# Altium footprint library PcbLib1.PcbLib: 26 footprints (part 1 of 2)
Each footprint in its own frame and in the unit in brackets; x right, y up, seen from the top. Pads: shape width x height; smd on the part's side, far side on the other; paste and mask are expansions set on the pad; w line width, h text height; cw(c..) or ccw(c..) is an arc to the next point about the centre after c.
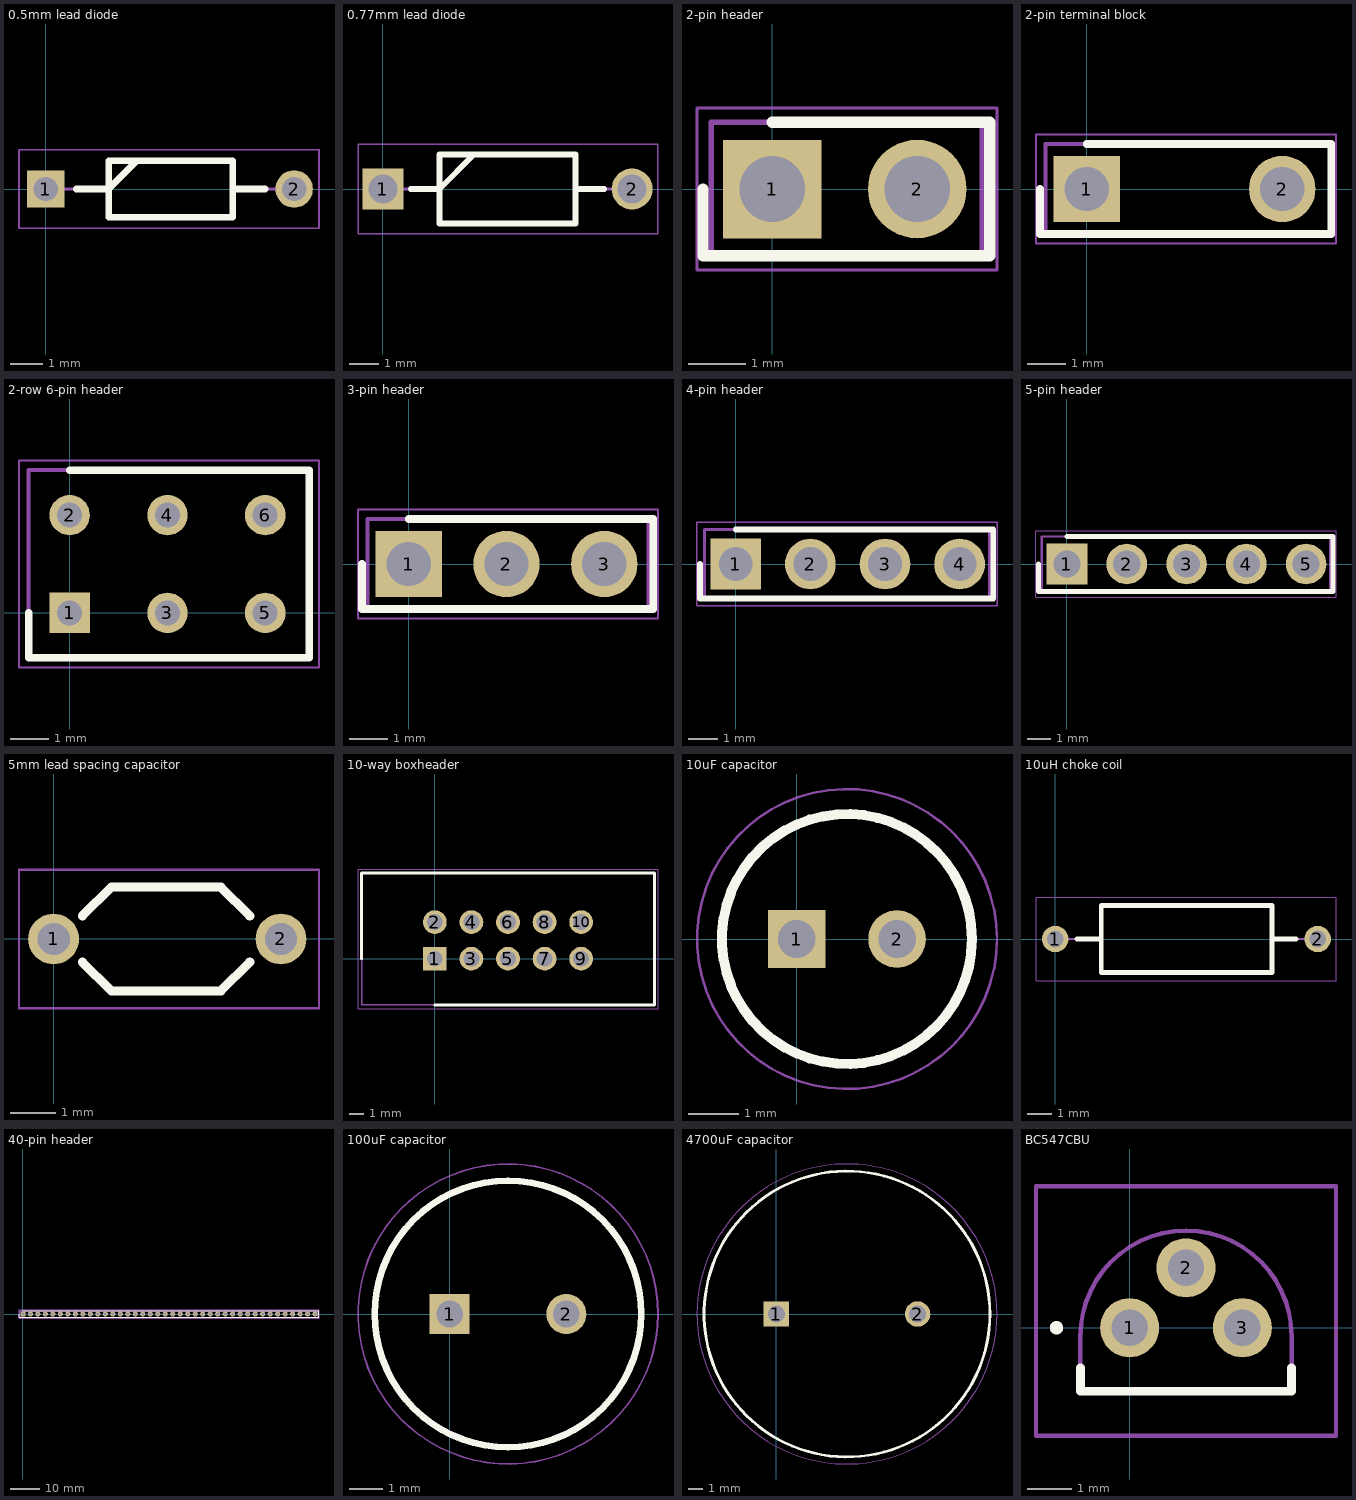
[diagram p0: the footprints below, top view; thin cyan lines are the x and y axes]

## 0.5mm lead diode [mm]
pads (2):
  rect 1.15x1.15 hole 0.75: 1(0,0)
  round 1.15 hole 0.75: 2(7.62,0)
Top Overlay:
  lines w0.2: 0.925,0 1.905,0 ; 1.924,0 2.784,0.86 ; 5.842,0 6.731,0 ; 1.924,-0.86 5.728,-0.86 5.728,0.86 1.924,0.86 1.924,-0.86
Mechanical 13:
  lines w0.1: 0,0 1.905,0 ; 1.924,0 2.784,0.86 ; 5.715,0 7.62,0 ; 1.924,-0.86 5.729,-0.86 5.729,0.86 1.924,0.86 1.924,-0.86
Mechanical 15:
  lines w0.05: -0.825,-1.21 8.382,-1.21 8.382,1.21 -0.825,1.21 -0.825,-1.21
3D body: height 0, standoff 0, extent -0.264,-0.953 7.874,0.953

## 0.77mm lead diode [mil]
pads (2):
  rect 55x55 hole 39: 1(0,0)
  round 55 hole 39: 2(335.12,0)
Top Overlay:
  lines w7.87: 37.4,0 75,0 ; 76.02,0 122.28,46.26 ; 260,0 297.72,0 ; 76.02,-46.26 259.09,-46.26 259.09,46.26 76.02,46.26 76.02,-46.26
Mechanical 13:
  lines w3.94: 0,0 75,0 ; 76.02,0 122.28,46.26 ; 260,0 335.12,0 ; 76.02,-46.26 259.09,-46.26 259.09,46.26 76.02,46.26 76.02,-46.26
Mechanical 15:
  lines w1.97: -33.46,-60.04 370,-60.04 370,60.04 -33.46,60.04 -33.46,-60.04
3D body: height 0, standoff 0, extent -11.33,-53.04 345,53.04

## 2-pin header [mm]
pads (2):
  rect 1.725x1.725 hole 1.15: 1(0,0)
  round 1.725 hole 1.15: 2(2.54,0)
Top Overlay:
  lines w0.2: -1.212,0 -1.212,-1.168 3.81,-1.168 3.81,1.169 0,1.169
Mechanical 13:
  lines w0.1: -1.067,-1.168 3.683,-1.168 3.683,1.169 -1.067,1.169 -1.067,-1.168
Mechanical 15:
  lines w0.05: -1.317,-1.418 3.937,-1.418 3.937,1.419 -1.317,1.419 -1.317,-1.418
3D body: height 0, standoff 0, extent -1.067,-1.168 3.81,1.168

## 2-pin terminal block [mm]
pads (2):
  rect 1.725x1.725 hole 1.15: 1(0,0)
  round 1.725 hole 1.15: 2(5.08,0)
Top Overlay:
  lines w0.2: -1.212,0 -1.212,-1.168 6.35,-1.168 6.35,1.169 0,1.169
Mechanical 13:
  lines w0.1: -1.067,-1.168 -1.067,1.169 6.35,1.169 6.35,-1.168 -1.067,-1.168
Mechanical 15:
  lines w0.05: -1.317,-1.418 -1.317,1.419 6.477,1.419 6.477,-1.418 -1.317,-1.418
3D body: height 0, standoff 0, extent -2.54,-4.064 7.747,4.064

## 2-row 6-pin header [mm]
pads (6):
  rect 1.05x1.05 hole 0.65: 1(0,0)
  round 1.05 hole 0.65: 2(0,2.54) 3(2.54,0) 4(2.54,2.54) 5(5.08,0) 6(5.08,2.54)
Top Overlay:
  lines w0.2: -1.067,0 -1.067,-1.168 6.223,-1.168 6.223,3.709 0,3.709
Mechanical 13:
  lines w0.1: -1.067,-1.168 -1.067,3.709 6.223,3.709 6.223,-1.168 -1.067,-1.168
Mechanical 15:
  lines w0.05: -1.317,-1.418 -1.317,3.959 6.477,3.959 6.477,-1.418 -1.317,-1.418
3D body: height 0, standoff 0, extent -1.067,-1.168 6.223,3.708

## 3-pin header [mm]
pads (3):
  rect 1.725x1.725 hole 1.15: 1(0,0)
  round 1.725 hole 1.15: 2(2.54,0) 3(5.08,0)
Top Overlay:
  lines w0.2: -1.212,0 -1.212,-1.168 6.35,-1.168 6.35,1.169 0,1.169
Mechanical 13:
  lines w0.1: -1.067,-1.168 -1.067,1.169 6.223,1.169 6.223,-1.168 -1.067,-1.168
Mechanical 15:
  lines w0.05: -1.317,-1.418 -1.317,1.419 6.477,1.419 6.477,-1.418 -1.317,-1.418
3D body: height 0, standoff 0, extent -1.067,-1.168 6.35,1.168

## 4-pin header [mm]
pads (4):
  rect 1.725x1.725 hole 1.15: 1(0,0)
  round 1.725 hole 1.15: 2(2.54,0) 3(5.08,0) 4(7.62,0)
Top Overlay:
  lines w0.2: -1.212,0 -1.212,-1.168 8.763,-1.168 8.763,1.169 0,1.169
Mechanical 13:
  lines w0.1: -1.067,-1.168 8.636,-1.168 8.636,1.169 -1.067,1.169 -1.067,-1.168
Mechanical 15:
  lines w0.05: -1.317,-1.418 8.89,-1.418 8.89,1.419 -1.317,1.419 -1.317,-1.418
3D body: height 0, standoff 0, extent -1.067,-1.168 8.636,1.168

## 5-pin header [mm]
pads (5):
  rect 1.725x1.725 hole 1.15: 1(0,0)
  round 1.725 hole 1.15: 2(2.54,0) 3(5.08,0) 4(7.62,0) 5(10.16,0)
Top Overlay:
  lines w0.2: -1.212,0 -1.212,-1.168 11.303,-1.168 11.303,1.169 0,1.169
Mechanical 13:
  lines w0.1: -1.067,-1.168 -1.067,1.169 11.176,1.169 11.176,-1.168 -1.067,-1.168
Mechanical 15:
  lines w0.05: -1.317,-1.418 -1.317,1.419 11.43,1.419 11.43,-1.418 -1.317,-1.418
3D body: height 0, standoff 0, extent -1.067,-1.168 11.176,1.168

## 5mm lead spacing capacitor [mil]
pads (2):
  round 44 hole 28: 1(0,0) 2(197,0)
Top Overlay:
  lines w7.87: 25,-20 50,-45 145,-45 170,-20 ; 25,20 50,45 145,45 170,20
Mechanical 15:
  lines w1.97: -30,-60 230,-60 230,60 -30,60 -30,-60

## 10-way boxheader [mm]
pads (10):
  rect 1.65x1.65 hole 1.1: 1(0,0)
  round 1.65 hole 1.1: 2(0,2.54) 3(2.54,0) 4(2.54,2.54) 5(5.08,0) 6(5.08,2.54) 7(7.62,0) 8(7.62,2.54) 9(10.16,0) 10(10.16,2.54)
Top Overlay:
  lines w0.2: -5.08,0 -5.08,5.945 15.24,5.945 15.24,-3.205 0,-3.205
Mechanical 13:
  lines w0.1: -5.08,-3.205 15.24,-3.205 15.24,5.945 -5.08,5.945 -5.08,-3.205
Mechanical 15:
  lines w0.05: -5.33,-3.455 15.494,-3.455 15.494,6.195 -5.33,6.195 -5.33,-3.455
3D body: height 0, standoff 0, extent -5.08,-3.205 14.986,5.745

## 10uF capacitor [mm]
pads (2):
  rect 1.15x1.15 hole 0.75: 1(0,0)
  round 1.15 hole 0.75: 2(2,0)
Top Overlay:
  circle w0.2: c1,0 r2.5
Mechanical 13:
  circle w0.1: c1,0 r2.5
Mechanical 15:
  circle w0.05: c1,0 r3
3D body "ECA-1HM100B.stp": height 12, standoff -10, extent -1.75,-2.75 3.75,2.75

## 10uH choke coil [mm]
pads (2):
  round 1.1 hole 0.7: 1(0,0) 2(10.922,0)
Top Overlay:
  lines w0.2: 0.9,0 1.905,0 ; 9.017,0 10.022,0 ; 1.912,-1.395 9.022,-1.395 9.022,1.395 1.912,1.395 1.912,-1.395
Mechanical 13:
  lines w0.1: 0,0 1.905,0 ; 9.017,0 10.922,0 ; 1.912,-1.395 9.022,-1.395 9.022,1.395 1.912,1.395 1.912,-1.395
Mechanical 15:
  lines w0.05: -0.8,-1.745 11.684,-1.745 11.684,1.745 -0.8,1.745 -0.8,-1.745
3D body: height 0, standoff 0, extent -0.253,-1.392 11.176,1.392

## 40-pin header [mm]
pads (40):
  rect 1.725x1.725 hole 1.15: 1(0,0)
  round 1.725 hole 1.15: 2(2.54,0) 3(5.08,0) 4(7.62,0) 5(10.16,0) 6(12.7,0) 7(15.24,0) 8(17.78,0) 9(20.32,0) 10(22.86,0) 11(25.4,0) 12(27.94,0) 13(30.48,0) 14(33.02,0) 15(35.56,0) 16(38.1,0) 17(40.64,0) 18(43.18,0) 19(45.72,0) 20(48.26,0) 21(50.8,0) 22(53.34,0) 23(55.88,0) 24(58.42,0) 25(60.96,0) 26(63.5,0) 27(66.04,0) 28(68.58,0) 29(71.12,0) 30(73.66,0) 31(76.2,0) 32(78.74,0) 33(81.28,0) 34(83.82,0) 35(86.36,0) 36(88.9,0) 37(91.44,0) 38(93.98,0) 39(96.52,0) 40(99.06,0)
Top Overlay:
  lines w0.2: -1.212,0 -1.212,-1.168 100.273,-1.168 100.273,1.169 0,1.169
Mechanical 13:
  lines w0.1: -1.067,-1.168 100.127,-1.168 100.127,1.169 -1.067,1.169 -1.067,-1.168
Mechanical 15:
  lines w0.05: -1.317,-1.418 100.377,-1.418 100.377,1.419 -1.317,1.419 -1.317,-1.418
3D body "4-103321-8.stp": height 10.37, standoff -3.17, extent -1.067,-1.168 100.127,1.168

## 100uF capacitor [mm]
pads (2):
  rect 1.2x1.2 hole 0.8: 1(0,0)
  round 1.2 hole 0.8: 2(3.5,0)
Top Overlay:
  circle w0.2: c1.75,0 r4
Mechanical 13:
  circle w0.1: c1.75,0 r4
Mechanical 15:
  circle w0.05: c1.75,0 r4.5
3D body "ESK107M050AG3EA.stp": height 12.5, standoff -10, extent -2.5,-4.25 6,4.25

## 4700uF capacitor [mm]
pads (2):
  rect 1.8x1.8 hole 1.2: 1(0,0)
  round 1.8 hole 1.2: 2(10,0)
Top Overlay:
  circle w0.2: c5,0 r10.125
Mechanical 13:
  circle w0.1: c5,0 r10.125
Mechanical 15:
  circle w0.05: c5,0 r10.625
3D body "UVR1H472MRD.stp": height 42, standoff -10, extent -5.25,-10.245 15.25,10.245

## BC547CBU [mm]
pads (3):
  round 1.333 hole 0.82: 1(0,0) 2(1.27,1.35) 3(2.54,0)
Top Overlay:
  lines w0.2: -1.11,-0.9 -1.11,-1.43 3.65,-1.43 3.65,-0.9 ; -1.7,0 ccw(c-1.65,0) -1.6,0 ; -1.7,0 cw(c-1.65,0) -1.6,0 ; -1.7,0 ccw(c-1.65,0) -1.6,0
Mechanical 13:
  lines w0.1: -1.11,-1.43 1.27,-1.43 3.65,-1.43 3.65,-0.19 ccw(c1.27,-0.19) -1.11,-0.19 -1.11,-1.43
Mechanical 15:
  lines w0.1: -2.11,-2.43 4.65,-2.43 4.65,3.19 -2.11,3.19 -2.11,-2.43
3D body "BC547CBU.stp": height 5.43, standoff -5, extent -1.11,-1.43 3.65,2.19